# EAGLE library part 18012115421H (library Wurth_Digital Isolators_WPME-CDIS)
WPME-CDIS Capacitive Digital Isolator Standard Characteristics Industrial standard package and pin configuration Signal transmission in high-speed applications (data rate up to 150 Mbps) High level of immunity to system noise (CMTI ±150 kV/µs) UL 1577 approval Applications Communication bus isolation Motor Control Industrial SMPS Test and measurement systems Microcontroller and DSP application Industrial automation Programmable logic controller (PLC) interfaces Battery management systems Solar inverters <https://www.we-online.com/components/media/o758945v209%20multi-parts-WPM-CDIS-18014015401H.jpg> Details see: www.we-online.com/en/components/products/DIGITAL-ISOLATORS-WPME-CDIS <www.we-online.com/catalog/DIGITAL-ISOLATORS-WPME-CDIS/?utm_source=eagle_model&utm_medium=description_link&utm_campaign=eisos_eagle> Created by Ella Wu 2024-04-11 2024 (C) Wurth Elektronik
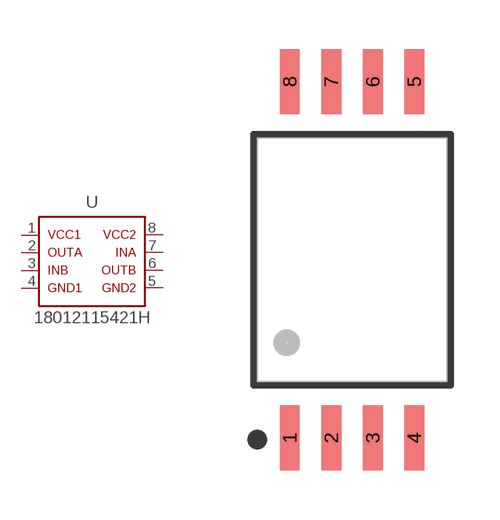
[diagram p0: symbol with the pads of WPME-CDIS_SOIC8_WB; footprint WPME-CDIS_SOIC8_WB]

Designator prefix U

## 18012115421H (CHANNEL-CONFIGURATION: 1/1; CMTI: 150; DATASHEET-URL: https://www.we-online.com/redexpert/spec/18012115421H?ae; DR: 150Mbps; MOUNT: SMT; PART-NUMBER: 18012115421H; STANDARDAUSGABE: High; TPLH-TPHL: 12ns; VALUE: 18012115421H; VCC-MAX: 5.5V; VCC-MIN: 2.375V; VISO: 5000V(RMS))  [WPME-CDIS_SOIC8_WB]
1  1  pas
2  2  pas
3  3  pas
4  4  pas
5  5  pas
6  6  pas
7  7  pas
8  8  pas

## Footprint WPME-CDIS_SOIC8_WB (pad centres in mm)
WPME-CDIS Capacitive Digital Isolator Standard Size: SOIC 8WB, SMT, 8pins LXWXH = 5.85X10.3X2.8mm
smd 0.6 x 2: 1 -1.905,-5.45; 2 -0.635,-5.45; 3 0.635,-5.45; 4 1.905,-5.45; 5 1.905,5.45; 6 0.635,5.45; 7 -0.635,5.45; 8 -1.905,5.45